# EAGLE library part CY8C4127LQI-BL483 (library PSoC4-BLE)
MCU, Cortex-M0, 32-bit, 128K Flash, 16K RAM, 24MHz, 0 UDB, 2 SCB, 4 OpAmp, 1 800 Ksps ADC, Bluetooth-SMART
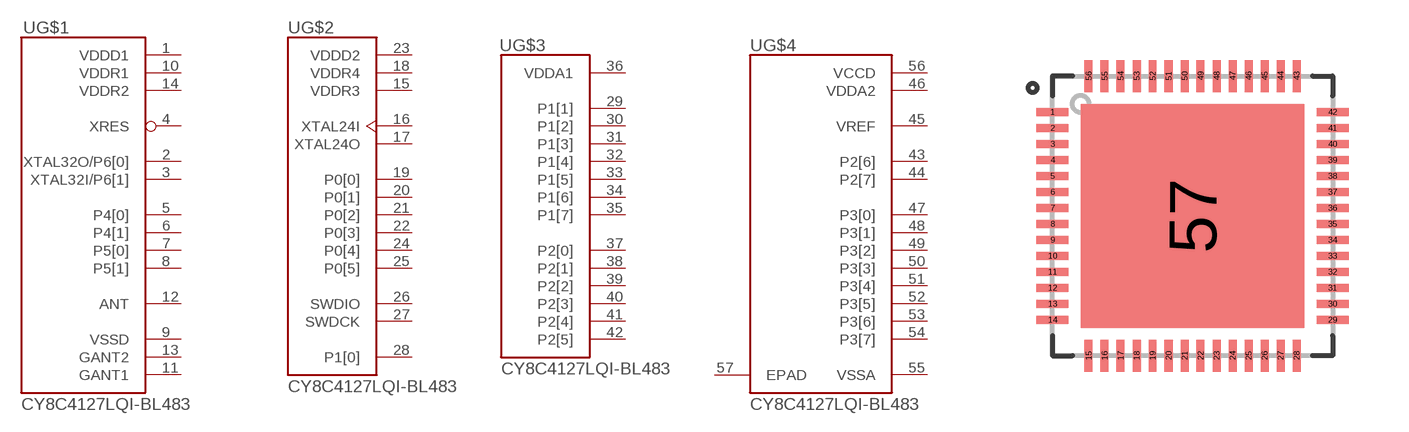
[diagram p2: symbol with the pads of JEDEC_MO-248_QFN-56-7MMX7MM; footprint JEDEC_MO-248_QFN-56-7MMX7MM]

Designator prefix U; gates G$1=PSOC_4BLE_QFN-A G$2=PSOC_4BLE_QFN-B G$3=PSOC_4BLE_QFN-C G$4=PSOC_4BLE_QFN-D

## CY8C4127LQI-BL483  [JEDEC_MO-248_QFN-56-7MMX7MM]
1  G$1:VDDD1  pwr
2  G$1:XTAL32O/P6[0]
3  G$1:XTAL32I/P6[1]
4  G$1:XRES  in
5  G$1:P4[0]
6  G$1:P4[1]
7  G$1:P5[0]
8  G$1:P5[1]
9  G$1:VSSD  pwr
10  G$1:VDDR1  pwr
11  G$1:GANT1  pwr
12  G$1:ANT  pas
13  G$1:GANT2  pwr
14  G$1:VDDR2  pwr
15  G$2:VDDR3  pwr
16  G$2:XTAL24I
17  G$2:XTAL24O
18  G$2:VDDR4  pwr
19  G$2:P0[0]
20  G$2:P0[1]
21  G$2:P0[2]
22  G$2:P0[3]
23  G$2:VDDD2  pwr
24  G$2:P0[4]
25  G$2:P0[5]
26  G$2:SWDIO
27  G$2:SWDCK
28  G$2:P1[0]
29  G$3:P1[1]
30  G$3:P1[2]
31  G$3:P1[3]
32  G$3:P1[4]
33  G$3:P1[5]
34  G$3:P1[6]
35  G$3:P1[7]
36  G$3:VDDA1
37  G$3:P2[0]
38  G$3:P2[1]
39  G$3:P2[2]
40  G$3:P2[3]
41  G$3:P2[4]
42  G$3:P2[5]
43  G$4:P2[6]
44  G$4:P2[7]
45  G$4:VREF  pas
46  G$4:VDDA2  pwr
47  G$4:P3[0]
48  G$4:P3[1]
49  G$4:P3[2]
50  G$4:P3[3]
51  G$4:P3[4]
52  G$4:P3[5]
53  G$4:P3[6]
54  G$4:P3[7]
55  G$4:VSSA  pwr
56  G$4:VCCD  pwr
57  G$4:EPAD  pwr

## Footprint JEDEC_MO-248_QFN-56-7MMX7MM (pad centres in mm)
smd 0.8 x 0.2: 1 -3.5,2.6; 2 -3.5,2.2; 3 -3.5,1.8; 4 -3.5,1.4; 5 -3.5,1; 6 -3.5,0.6; 7 -3.5,0.2; 8 -3.5,-0.2; 9 -3.5,-0.6; 10 -3.5,-1; 11 -3.5,-1.4; 12 -3.5,-1.8; 13 -3.5,-2.2; 14 -3.5,-2.6; 29 3.5,-2.6; 30 3.5,-2.2; 31 3.5,-1.8; 32 3.5,-1.4; 33 3.5,-1; 34 3.5,-0.6; 35 3.5,-0.2; 36 3.5,0.2; 37 3.5,0.6; 38 3.5,1; 39 3.5,1.4; 40 3.5,1.8; 41 3.5,2.2; 42 3.5,2.6
smd 0.2 x 0.8: 15 -2.6,-3.5; 16 -2.2,-3.5; 17 -1.8,-3.5; 18 -1.4,-3.5; 19 -1,-3.5; 20 -0.6,-3.5; 21 -0.2,-3.5; 22 0.2,-3.5; 23 0.6,-3.5; 24 1,-3.5; 25 1.4,-3.5; 26 1.8,-3.5; 27 2.2,-3.5; 28 2.6,-3.5; 43 2.6,3.5; 44 2.2,3.5; 45 1.8,3.5; 46 1.4,3.5; 47 1,3.5; 48 0.6,3.5; 49 0.2,3.5; 50 -0.2,3.5; 51 -0.6,3.5; 52 -1,3.5; 53 -1.4,3.5; 54 -1.8,3.5; 55 -2.2,3.5; 56 -2.6,3.5
smd 5.6 x 5.6: 57 0,0